# EAGLE library part G5RL-1A-E-HR (library iddproject)
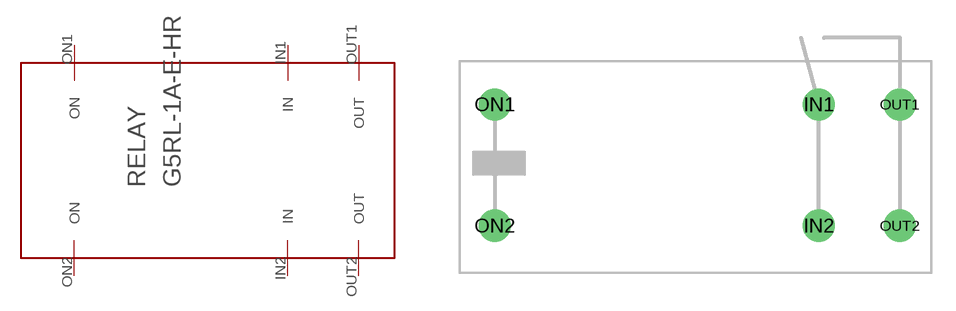
[diagram p3: symbol with the pads of G5RL-1A-E-HR; footprint G5RL-1A-E-HR]

Designator prefix RELAY

## G5RL-1A-E-HR  [G5RL-1A-E-HR]
IN1  IN
IN2  IN
ON1  ON
ON2  ON
OUT1  OUT
OUT2  OUT

## Footprint G5RL-1A-E-HR (pad centres in mm)
drill 1.321: IN1 7.29,5.08; IN2 7.29,-2.413; ON1 -12.7,5.08; ON2 -12.7,-2.413; OUT1 12.294,5.08; OUT2 12.294,-2.413